# Altium footprint library QFP_Sq_127P_Side_N.PcbLib: 1 footprints
Each footprint in its own frame and in the unit in brackets; x right, y up, seen from the top. Pads: shape width x height; smd on the part's side, far side on the other; paste and mask are expansions set on the pad; w line width, h text height; cw(c..) or ccw(c..) is an arc to the next point about the centre after c.
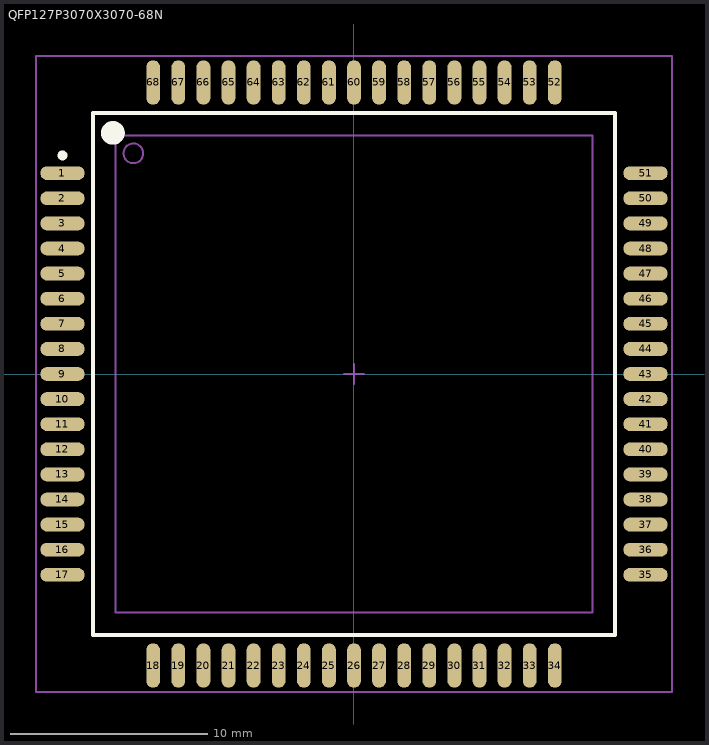
[diagram p0: the footprint, top view; thin cyan lines are the x and y axes]

## QFP127P3070X3070-68N [mm] "QFP, 68-Leads, Body 24x24mm, Pitch 1.27mm, IPC Medium Density"
height 4.81
pads (68):
  oval 2.25x0.7 smd: 1(-14.75,10.16) 2(-14.75,8.89) 3(-14.75,7.62) 4(-14.75,6.35) 5(-14.75,5.08) 6(-14.75,3.81) 7(-14.75,2.54) 8(-14.75,1.27) 9(-14.75,0) 10(-14.75,-1.27) 11(-14.75,-2.54) 12(-14.75,-3.81) 13(-14.75,-5.08) 14(-14.75,-6.35) 15(-14.75,-7.62) 16(-14.75,-8.89) 17(-14.75,-10.16) 35(14.75,-10.16) 36(14.75,-8.89) 37(14.75,-7.62) 38(14.75,-6.35) 39(14.75,-5.08) 40(14.75,-3.81) 41(14.75,-2.54) 42(14.75,-1.27) 43(14.75,0) 44(14.75,1.27) 45(14.75,2.54) 46(14.75,3.81) 47(14.75,5.08) 48(14.75,6.35) 49(14.75,7.62) 50(14.75,8.89) 51(14.75,10.16)
  oval 0.7x2.25 smd: 18(-10.16,-14.75) 19(-8.89,-14.75) 20(-7.62,-14.75) 21(-6.35,-14.75) 22(-5.08,-14.75) 23(-3.81,-14.75) 24(-2.54,-14.75) 25(-1.27,-14.75) 26(0,-14.75) 27(1.27,-14.75) 28(2.54,-14.75) 29(3.81,-14.75) 30(5.08,-14.75) 31(6.35,-14.75) 32(7.62,-14.75) 33(8.89,-14.75) 34(10.16,-14.75) 52(10.16,14.75) 53(8.89,14.75) 54(7.62,14.75) 55(6.35,14.75) 56(5.08,14.75) 57(3.81,14.75) 58(2.54,14.75) 59(1.27,14.75) 60(0,14.75) 61(-1.27,14.75) 62(-2.54,14.75) 63(-3.81,14.75) 64(-5.08,14.75) 65(-6.35,14.75) 66(-7.62,14.75) 67(-8.89,14.75) 68(-10.16,14.75)
Top Overlay:
  circle w0.6: c-12.2,12.2 r0.3
  circle w0.25: c-14.75,11.06 r0.125
  lines w0.2: -13.2,-13.2 13.2,-13.2 13.2,13.2 -13.2,13.2 -13.2,-13.2
Mechanical 13:
  circle w0.1: c-11.165,11.165 r0.5
  lines w0.1: -12.065,-12.065 12.065,-12.065 12.065,12.065 -12.065,12.065 -12.065,-12.065
Mechanical 15:
  lines w0.1: -0.5,0 0.5,0 ; 0,-0.5 0,0.5 ; -16.1,-16.1 16.1,-16.1 16.1,16.1 -16.1,16.1 -16.1,-16.1
3D body: height 4.81, standoff 0, extent -12.065,-12.065 12.065,12.065